# Altium schematic symbol library UCD1E221MNL1GS.SchLib: 2 symbols
Pins are listed as number, name and electrical type; pins without a type are passive.

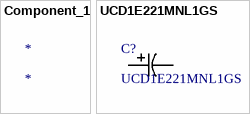
[diagram p0: symbols Component_1 to UCD1E221MNL1GS]

## Component_1
designator *

## UCD1E221MNL1GS
designator C?
No Description Available; Vendor: Nichicon; Built_By: EMA_UL_Team; SourceLibrary: Nichicon_2011-10-21; Type: DEV; Manufacturer_Part_Number: UCD1E221MNL1GS; Copyright: Copyright (C) 2018 Accelerated Designs. All rights reserved; RefDes: RefDes
footprint PCAP_8x10-ELECT_NCA
pins: 1, 2